# Altium integrated library ECS-80-20-5PX-TR.IntLib: 1 symbol
Pins are listed as number, name and electrical type; pins without a type are passive.

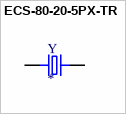
[diagram p0: symbol ECS-80-20-5PX-TR]

## ECS-80-20-5PX-TR
designator Y
8MHz Â±30ppm Crystal 20pF 60 Ohms HC-49/US; MP: ECS-80-20-5PX-TR; MF: ECS Inc.; Package: HC-49/US ECS International; Value: *; SnapEDA_Link: https://www.snapeda.com/parts/ECS-80-20-5PX-TR/ECS%20Inc./view-part/2460571/?ref=snap; Digi-Key_Purchase_URL: https://www.digikey.in/product-detail/en/ecs-inc/ECS-80-20-5PX-TR/XC2076CT-ND/5875560?utm_source=snapeda&utm_medium=aggregator&utm_campaign=symbol; Digi-Key_Part_Number: XC2076CT-ND
footprint XTAL_ECS-80-20-5PX-TR
pins: 1, 2